# Altium schematic symbol library Indutores.SchLib: 7 symbols
Pins are listed as number, name and electrical type; pins without a type are passive.

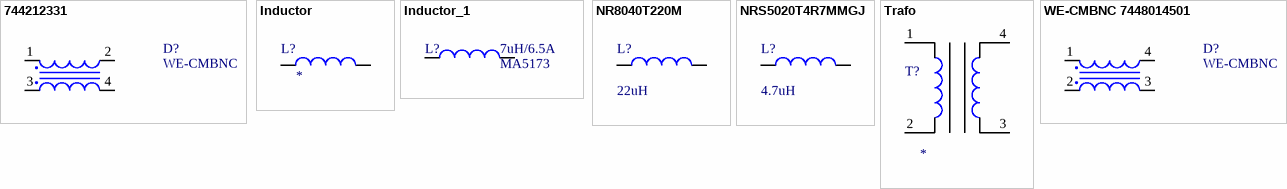
[diagram p0: symbols 744212331 to WE-CMBNC 7448014501]

## 744212331
designator D?, comment WE-CMBNC
CMC 330UH 300MA 2LN 2 KOHM SMD; Valor/Partnumber: CMC 330UH 744212331; Montagem: PTH; Fornecedor1: Wurth; ComponentLinkDescription1: Datasheet
footprint 744212331
pins: 1, 2, 3, 4

## Inductor
designator L?  (value not drawn)
Value: *
footprint Ind 10mm (Indutor radial corpo 10mm)
footprint TrafoInductor
pins: 1, 2

## Inductor_1
designator L?, comment MA5173  value 7uH/6.5A
Inductor; Code_IEC: 1005; LatestRevisionDate: 29-May-2009; LatestRevisionNote: IPC-7351 Footprint Added.; PackageReference: 0402-A; Publisher: Altium Limited; PackageDescription: Chip Inductor; Code_JEITA: 0402
footprint Ind 10mm (Indutor radial corpo 10mm)
footprint Inductor MA5173-AE (Inductor MA5173-AE CoilCraft)
pins: 1, 2

## NR8040T220M
designator L?, comment 22uH
FIXED IND 22UH 2.2A 85.8 MOHM; Valor/Partnumber: 22uH 2.2A NR8040T220M
footprint NR8040
pins: 1, 2

## NRS5020T4R7MMGJ
designator L?, comment 4.7uH
FIXED IND 4.7UH 2A 72 MOHM SMD; Valor/Partnumber: 4.7uH 2A NRS5020T4R7MMGJ
footprint NRS5020
pins: 1, 2

## Trafo
designator T?  (value not drawn)
Value: *
footprint Trafo
pins: 1, 2, 3, 4

## WE-CMBNC 7448014501
designator D?, comment WE-CMBNC
WE-CMBNC Common Mode Power Line  Choke Nanocrystalline; Montagem: PTH; Fornecedor1: Wurth; ComponentLinkDescription1: Datasheet; Valor/Partnumber: WE-CMBNC
footprint InductorWurth100x45
pins: 1, 2, 3, 4